# Altium schematic symbol library B22AP.SchLib: 1 symbol
Pins are listed as number, name and electrical type; pins without a type are passive.

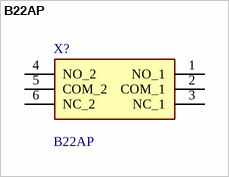
[diagram p0: symbol B22AP]

## B22AP
designator X?
Toggle Switches DPDT ON-NONE-ON .394 BAT STRAIGHT PC; Manufacturer_Name: NKK Switches; Geometry.Height: 23.1mm; Mouser Part Number: 633-B22AP; Mouser Price/Stock: https://www.mouser.co.uk/ProductDetail/NKK-Switches/B22AP?qs=j%2Fw1qMK5FF4ADLD4OYx5DQ%3D%3D; Manufacturer_Part_Number: B22AP; Datasheet Link: https://www.digikey.ph/en/products/detail/nkk-switches/B22AP/379102?srsltid=AfmBOoq2ffh3TUAnDNiZJlaVxYCDEPLtTEJlIOaBAa2Y6mNiDAISLYZb
footprint B22AP
pins: 1 NO_1, 2 COM_1, 3 NC_1, 4 NO_2, 5 COM_2, 6 NC_2